# EAGLE library part AD8237 (library AD8237)
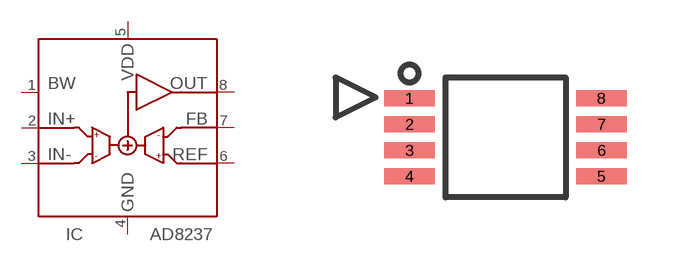
[diagram p0: symbol with the pads of MSOP8; footprint MSOP8]

Designator prefix IC

## AD8237ARMZ  [MSOP8]
1  BW  in
2  INP  in
3  INN  in
4  GND  pwr
5  VDD  pwr
6  REF  in
7  FB  in
8  VOUT  out

## Footprint MSOP8 (pad centres in mm)
smd 1.26 x 0.4: 1 -2.4,0.975; 2 -2.4,0.325; 3 -2.4,-0.325; 4 -2.4,-0.975; 5 2.4,-0.975; 6 2.4,-0.325; 7 2.4,0.325; 8 2.4,0.975